# EAGLE library part SI-8621 (library MyComponents)
Two channel ultra-low-power digital isolator
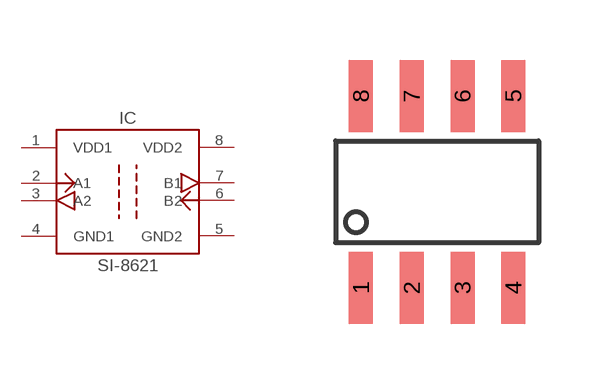
[diagram p18: symbol with the pads of SOIC-8; footprint SOIC-8]

Designator prefix IC

## SI-8621 (MOUSER: 634-SI8621AB-B-IS)  [SOIC-8]
1  VDD1
2  A1
3  A2
4  GND1
5  GND2
6  B2
7  B1
8  VDD2

## Footprint SOIC-8 (pad centres in mm)
SMALL OUTLINE INTEGRATED CIRCUIT body 3.9 mm/JEDEC MS-012AA
smd 0.6 x 1.8: 1 -1.905,-2.4; 2 -0.635,-2.4; 3 0.635,-2.4; 4 1.905,-2.4; 5 1.905,2.4; 6 0.635,2.4; 7 -0.635,2.4; 8 -1.905,2.4